# Altium footprint library OpticalReceiver 05_10_18.PcbLib: 1 footprints
Each footprint in its own frame and in the unit in brackets; x right, y up, seen from the top. Pads: shape width x height; smd on the part's side, far side on the other; paste and mask are expansions set on the pad; w line width, h text height; cw(c..) or ccw(c..) is an arc to the next point about the centre after c.
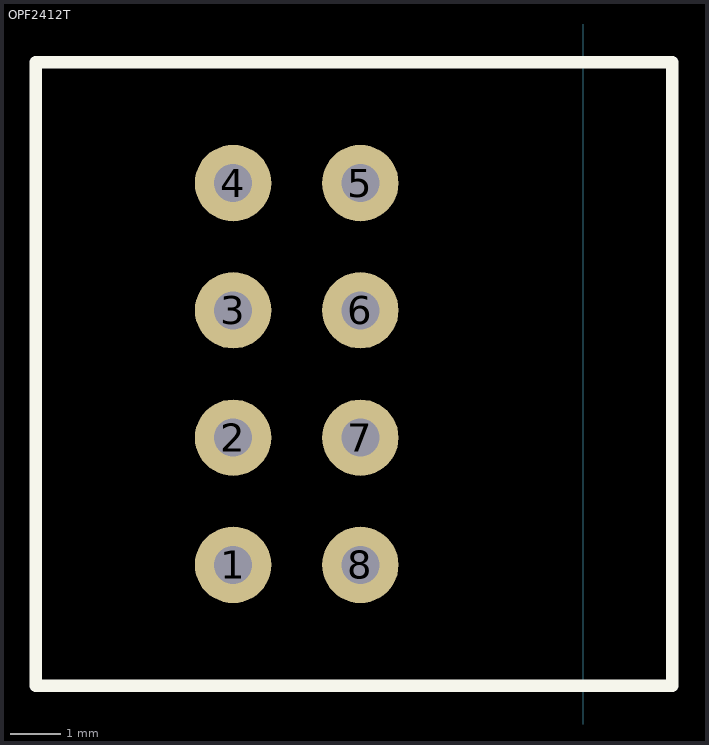
[diagram p0: the footprint, top view; thin cyan lines are the x and y axes]

## OPF2412T [mil] "Optic Receiver"
pads (8):
  round 60 hole 30: 1(-275,660) 2(-275,760) 3(-275,860) 4(-275,960) 5(-175,960) 6(-175,860) 7(-175,760) 8(-175,660)
Top Overlay:
  lines w10: -430,565 -430,1055 70,1055 70,565 -430,565